# EAGLE library part TRAFO-TALEMA (library 1A-meinLib)
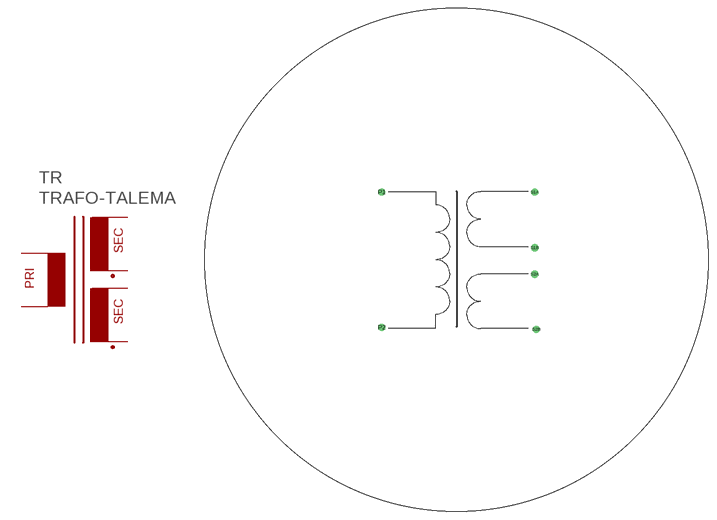
[diagram p247: symbol with the pads of TRAFO-TALEMA-20627; footprint TRAFO-TALEMA-20627]

Designator prefix TR

## TRAFO-TALEMA  [TRAFO-TALEMA-20627]
P1  PA  pas
P2  PB  pas
S1A  S1A  pas
S1B  S1B  pas
S2A  S2A  pas
S2B  S2B  pas

## Footprint TRAFO-TALEMA-20627 (pad centres in mm)
drill 0.8 round: P1 -13.635,12.365; P2 -13.635,-12.365; S1A 14.27,12.365; S1B 14.27,2.205; S2A 14.27,-2.635; S2B 14.54,-12.73